# EAGLE library part 68800711622 (library Wire-to-Board (rev18a))
WR-WTB 2.50mm "J"Type Vertical Male Shrouded Header, 7 Pins=>Code : WR-WTB_Stiftleiste_J_68800711622 <http://katalog.we-online.de/media/thumbs2/eican/thb_WR-WTB_Stiftleiste_J_68800116622.jpg> Details see: http://katalog.we-online.de/en/em/WTB_2_50_J_TYPE_VERTICAL_MALE_SHROUDED_HEADER_6880XX11622 Created 2014-06-05, Karrer Zheng 2014 (C) Würth Elektronik
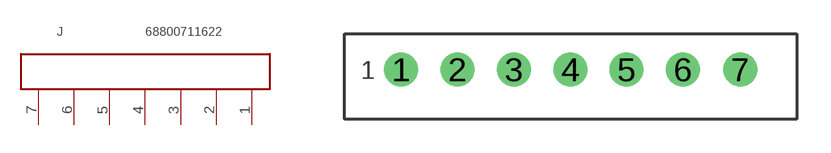
[diagram p14: symbol with the pads of 68800711622; footprint 68800711622]

Designator prefix J

## 68800711622  [68800711622]
1  1  pas
2  2  pas
3  3  pas
4  4  pas
5  5  pas
6  6  pas
7  7  pas

## Footprint 68800711622 (pad centres in mm)
WR-WTB 2.50mm "J" Type Vertical Male Shrouded Header, 7 Pins
drill 1: 1 -7.52,0; 2 -5.02,0; 3 -2.52,0; 4 -0.02,0; 5 2.48,0; 6 4.98,0; 7 7.52,0